# Altium footprint library Connectors-WR-PHD_Pin Header.PcbLib: 232 footprints (part 11 of 15)
Each footprint in its own frame and in the unit in brackets; x right, y up, seen from the top. Pads: shape width x height; smd on the part's side, far side on the other; paste and mask are expansions set on the pad; w line width, h text height; cw(c..) or ccw(c..) is an arc to the next point about the centre after c.
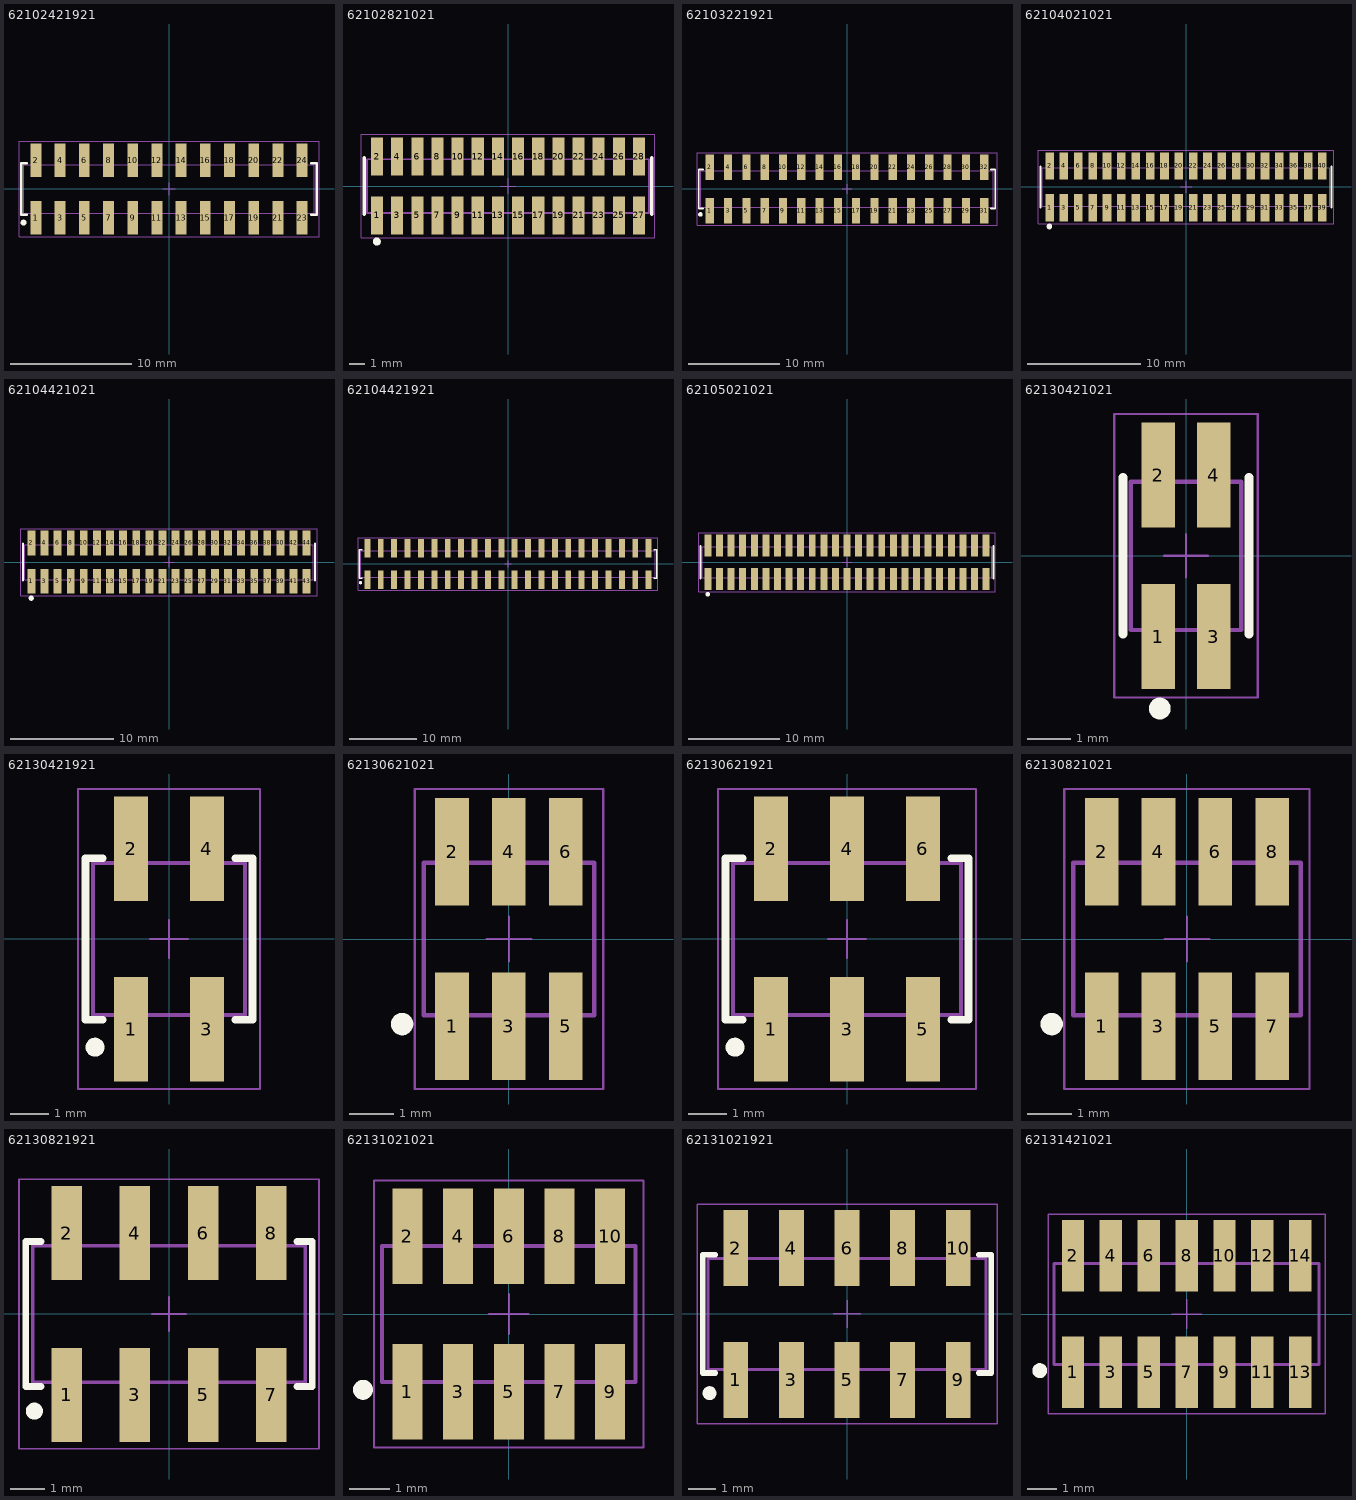
[diagram p10: the footprints below, top view; thin cyan lines are the x and y axes]

## 62102421921 [mm] "Pin Header, pitch 2.00 mm, SMD, Vertical, dual row, 24p"
height 6.8
pads (24):
  rect 0.89x2.75 smd: 1(-11,-2.375) 2(-11,2.375) 3(-9,-2.375) 4(-9,2.375) 5(-7,-2.375) 6(-7,2.375) 7(-5,-2.375) 8(-5,2.375) 9(-3,-2.375) 10(-3,2.375) 11(-1,-2.375) 12(-1,2.375) 13(1,-2.375) 14(1,2.375) 15(3,-2.375) 16(3,2.375) 17(5,-2.375) 18(5,2.375) 19(7,-2.375) 20(7,2.375) 21(9,-2.375) 22(9,2.375) 23(11,-2.375) 24(11,2.375)
Top Overlay:
  circle w0.25: c-12.022,-2.78 r0.125
  lines w0.2: -11.75,-2.125 -12.2,-2.125 -12.2,2.125 -11.75,2.125 ; 11.75,-2.125 12.2,-2.125 12.2,2.125 11.75,2.125
Top Designator:
  text ".Designator" at -7.498,-0.5 h1.5
Top Component Outline:
  lines w0.1: -11.25,-2 -11.25,-3.1 -10.75,-3.1 -10.75,-2 ; -11.25,2 -11.25,3.1 -10.75,3.1 -10.75,2 ; -9.25,-2 -9.25,-3.1 -8.75,-3.1 -8.75,-2 ; -9.25,2 -9.25,3.1 -8.75,3.1 -8.75,2 ; -7.25,-2 -7.25,-3.1 -6.75,-3.1 -6.75,-2 ; -7.25,2 -7.25,3.1 -6.75,3.1 -6.75,2 ; -5.25,-2 -5.25,-3.1 -4.75,-3.1 -4.75,-2 ; -5.25,2 -5.25,3.1 -4.75,3.1 -4.75,2 ; -3.25,-2 -3.25,-3.1 -2.75,-3.1 -2.75,-2 ; -3.25,2 -3.25,3.1 -2.75,3.1 -2.75,2 ; -1.25,-2 -1.25,-3.1 -0.75,-3.1 -0.75,-2 ; -1.25,2 -1.25,3.1 -0.75,3.1 -0.75,2 ; 0.75,-2 0.75,-3.1 1.25,-3.1 1.25,-2 ; 0.75,2 0.75,3.1 1.25,3.1 1.25,2 ; 2.75,-2 2.75,-3.1 3.25,-3.1 3.25,-2 ; 2.75,2 2.75,3.1 3.25,3.1 3.25,2 ; 4.75,-2 4.75,-3.1 5.25,-3.1 5.25,-2 ; 4.75,2 4.75,3.1 5.25,3.1 5.25,2 ; 6.75,-2 6.75,-3.1 7.25,-3.1 7.25,-2 ; 6.75,2 6.75,3.1 7.25,3.1 7.25,2 ; 8.75,-2 8.75,-3.1 9.25,-3.1 9.25,-2 ; 8.75,2 8.75,3.1 9.25,3.1 9.25,2 ; 10.75,-2 10.75,-3.1 11.25,-3.1 11.25,-2 ; 10.75,2 10.75,3.1 11.25,3.1 11.25,2 ; -12,-2 12,-2 12,2 -12,2 -12,-2
Top Courtyard:
  lines w0.05: -12.4,-3.95 -12.4,3.95 12.4,3.95 12.4,-3.95 -12.4,-3.95
Top Component Center:
  lines w0.05: -0.5,0 0.5,0 ; 0,-0.5 0,0.5
3D body "62102421921.stp": height 6.7, standoff 0, extent -12,-3.1 12,3.1

## 62102821021 [mm] "Pin Header, pitch 1.27 mm, SMD, Vertical, dual row, 28p"
height 6.55
pads (28):
  rect 0.76x2.4 smd: 1(-8.255,-1.85) 2(-8.255,1.85) 3(-6.985,-1.85) 4(-6.985,1.85) 5(-5.715,-1.85) 6(-5.715,1.85) 7(-4.445,-1.85) 8(-4.445,1.85) 9(-3.175,-1.85) 10(-3.175,1.85) 11(-1.905,-1.85) 12(-1.905,1.85) 13(-0.635,-1.85) 14(-0.635,1.85) 15(0.635,-1.85) 16(0.635,1.85) 17(1.905,-1.85) 18(1.905,1.85) 19(3.175,-1.85) 20(3.175,1.85) 21(4.445,-1.85) 22(4.445,1.85) 23(5.715,-1.85) 24(5.715,1.85) 25(6.985,-1.85) 26(6.985,1.85) 27(8.255,-1.85) 28(8.255,1.85)
Top Overlay:
  circle w0.25: c-8.27,-3.5 r0.125
  lines w0.2: -9.065,-1.8 -9.065,1.8 ; 9.065,-1.8 9.065,1.8
Top Designator:
  text ".Designator" at -3.499,-0.233 h0.7
Top Component Outline:
  lines w0.1: -8.455,-1.7 -8.455,-2.5 -8.055,-2.5 -8.055,-1.7 ; -8.455,1.7 -8.455,2.5 -8.055,2.5 -8.055,1.7 ; -7.185,-1.7 -7.185,-2.5 -6.785,-2.5 -6.785,-1.7 ; -7.185,1.7 -7.185,2.5 -6.785,2.5 -6.785,1.7 ; -5.915,-1.7 -5.915,-2.5 -5.515,-2.5 -5.515,-1.7 ; -5.915,1.7 -5.915,2.5 -5.515,2.5 -5.515,1.7 ; -4.645,-1.7 -4.645,-2.5 -4.245,-2.5 -4.245,-1.7 ; -4.645,1.7 -4.645,2.5 -4.245,2.5 -4.245,1.7 ; -3.375,-1.7 -3.375,-2.5 -2.975,-2.5 -2.975,-1.7 ; -3.375,1.7 -3.375,2.5 -2.975,2.5 -2.975,1.7 ; -2.105,-1.7 -2.105,-2.5 -1.705,-2.5 -1.705,-1.7 ; -2.105,1.7 -2.105,2.5 -1.705,2.5 -1.705,1.7 ; -0.835,-1.7 -0.835,-2.5 -0.435,-2.5 -0.435,-1.7 ; -0.835,1.7 -0.835,2.5 -0.435,2.5 -0.435,1.7 ; 0.435,-1.7 0.435,-2.5 0.835,-2.5 0.835,-1.7 ; 0.435,1.7 0.435,2.5 0.835,2.5 0.835,1.7 ; 1.705,-1.7 1.705,-2.5 2.105,-2.5 2.105,-1.7 ; 1.705,1.7 1.705,2.5 2.105,2.5 2.105,1.7 ; 2.975,-1.7 2.975,-2.5 3.375,-2.5 3.375,-1.7 ; 2.975,1.7 2.975,2.5 3.375,2.5 3.375,1.7 ; 4.245,-1.7 4.245,-2.5 4.645,-2.5 4.645,-1.7 ; 4.245,1.7 4.245,2.5 4.645,2.5 4.645,1.7 ; 5.515,-1.7 5.515,-2.5 5.915,-2.5 5.915,-1.7 ; 5.515,1.7 5.515,2.5 5.915,2.5 5.915,1.7 ; 6.785,-1.7 6.785,-2.5 7.185,-2.5 7.185,-1.7 ; 6.785,1.7 6.785,2.5 7.185,2.5 7.185,1.7 ; 8.055,-1.7 8.055,-2.5 8.455,-2.5 8.455,-1.7 ; 8.055,1.7 8.055,2.5 8.455,2.5 8.455,1.7 ; -8.89,-1.7 8.89,-1.7 8.89,1.7 -8.89,1.7 -8.89,-1.7
Top Courtyard:
  lines w0.05: -9.265,-3.25 9.265,-3.25 9.265,3.25 -9.265,3.25 -9.265,-3.25
Top Component Center:
  lines w0.05: -0.5,0 0.5,0 ; 0,-0.5 0,0.5
3D body "62102821021.stp": height 5.9, standoff -0.01, extent -8.89,-2.5 8.89,2.5

## 62103221921 [mm] "Pin Header, pitch 2.00 mm, SMD, Vertical, dual row, 32p"
height 6.8
pads (32):
  rect 0.89x2.75 smd: 1(-15,-2.375) 2(-15,2.375) 3(-13,-2.375) 4(-13,2.375) 5(-11,-2.375) 6(-11,2.375) 7(-9,-2.375) 8(-9,2.375) 9(-7,-2.375) 10(-7,2.375) 11(-5,-2.375) 12(-5,2.375) 13(-3,-2.375) 14(-3,2.375) 15(-1,-2.375) 16(-1,2.375) 17(1,-2.375) 18(1,2.375) 19(3,-2.375) 20(3,2.375) 21(5,-2.375) 22(5,2.375) 23(7,-2.375) 24(7,2.375) 25(9,-2.375) 26(9,2.375) 27(11,-2.375) 28(11,2.375) 29(13,-2.375) 30(13,2.375) 31(15,-2.375) 32(15,2.375)
Top Overlay:
  circle w0.25: c-16.022,-2.78 r0.125
  lines w0.2: -15.75,-2.125 -16.2,-2.125 -16.2,2.125 -15.75,2.125 ; 15.75,-2.125 16.2,-2.125 16.2,2.125 15.75,2.125
Top Designator:
  text ".Designator" at -7.498,-0.5 h1.5
Top Component Outline:
  lines w0.1: -15.25,-2 -15.25,-3.1 -14.75,-3.1 -14.75,-2 ; -15.25,2 -15.25,3.1 -14.75,3.1 -14.75,2 ; -13.25,-2 -13.25,-3.1 -12.75,-3.1 -12.75,-2 ; -13.25,2 -13.25,3.1 -12.75,3.1 -12.75,2 ; -11.25,-2 -11.25,-3.1 -10.75,-3.1 -10.75,-2 ; -11.25,2 -11.25,3.1 -10.75,3.1 -10.75,2 ; -9.25,-2 -9.25,-3.1 -8.75,-3.1 -8.75,-2 ; -9.25,2 -9.25,3.1 -8.75,3.1 -8.75,2 ; -7.25,-2 -7.25,-3.1 -6.75,-3.1 -6.75,-2 ; -7.25,2 -7.25,3.1 -6.75,3.1 -6.75,2 ; -5.25,-2 -5.25,-3.1 -4.75,-3.1 -4.75,-2 ; -5.25,2 -5.25,3.1 -4.75,3.1 -4.75,2 ; -3.25,-2 -3.25,-3.1 -2.75,-3.1 -2.75,-2 ; -3.25,2 -3.25,3.1 -2.75,3.1 -2.75,2 ; -1.25,-2 -1.25,-3.1 -0.75,-3.1 -0.75,-2 ; -1.25,2 -1.25,3.1 -0.75,3.1 -0.75,2 ; 0.75,-2 0.75,-3.1 1.25,-3.1 1.25,-2 ; 0.75,2 0.75,3.1 1.25,3.1 1.25,2 ; 2.75,-2 2.75,-3.1 3.25,-3.1 3.25,-2 ; 2.75,2 2.75,3.1 3.25,3.1 3.25,2 ; 4.75,-2 4.75,-3.1 5.25,-3.1 5.25,-2 ; 4.75,2 4.75,3.1 5.25,3.1 5.25,2 ; 6.75,-2 6.75,-3.1 7.25,-3.1 7.25,-2 ; 6.75,2 6.75,3.1 7.25,3.1 7.25,2 ; 8.75,-2 8.75,-3.1 9.25,-3.1 9.25,-2 ; 8.75,2 8.75,3.1 9.25,3.1 9.25,2 ; 10.75,-2 10.75,-3.1 11.25,-3.1 11.25,-2 ; 10.75,2 10.75,3.1 11.25,3.1 11.25,2 ; 12.75,-2 12.75,-3.1 13.25,-3.1 13.25,-2 ; 12.75,2 12.75,3.1 13.25,3.1 13.25,2 ; 14.75,-2 14.75,-3.1 15.25,-3.1 15.25,-2 ; 14.75,2 14.75,3.1 15.25,3.1 15.25,2 ; -16,-2 -16,2 16,2 16,-2 -16,-2
Top Courtyard:
  lines w0.05: -16.4,-3.95 16.4,-3.95 16.4,3.95 -16.4,3.95 -16.4,-3.95
Top Component Center:
  lines w0.05: -0.5,0 0.5,0 ; 0,-0.5 0,0.5
3D body "62103221921.stp": height 6.7, standoff 0, extent -16,-3.1 16,3.1

## 62104021021 [mm] "Pin Header, pitch 1.27 mm, SMD, Vertical, dual row, 40p"
height 6.55
pads (40):
  rect 0.76x2.4 smd: 1(-12.065,-1.85) 2(-12.065,1.85) 3(-10.795,-1.85) 4(-10.795,1.85) 5(-9.525,-1.85) 6(-9.525,1.85) 7(-8.255,-1.85) 8(-8.255,1.85) 9(-6.985,-1.85) 10(-6.985,1.85) 11(-5.715,-1.85) 12(-5.715,1.85) 13(-4.445,-1.85) 14(-4.445,1.85) 15(-3.175,-1.85) 16(-3.175,1.85) 17(-1.905,-1.85) 18(-1.905,1.85) 19(-0.635,-1.85) 20(-0.635,1.85) 21(0.635,-1.85) 22(0.635,1.85) 23(1.905,-1.85) 24(1.905,1.85) 25(3.175,-1.85) 26(3.175,1.85) 27(4.445,-1.85) 28(4.445,1.85) 29(5.715,-1.85) 30(5.715,1.85) 31(6.985,-1.85) 32(6.985,1.85) 33(8.255,-1.85) 34(8.255,1.85) 35(9.525,-1.85) 36(9.525,1.85) 37(10.795,-1.85) 38(10.795,1.85) 39(12.065,-1.85) 40(12.065,1.85)
Top Overlay:
  circle w0.25: c-12.08,-3.5 r0.125
  lines w0.2: -12.875,-1.8 -12.875,1.8 ; 12.875,-1.8 12.875,1.8
Top Designator:
  text ".Designator" at -3.499,-0.233 h0.7
Top Component Outline:
  lines w0.1: -12.265,-1.7 -12.265,-2.5 -11.865,-2.5 -11.865,-1.7 ; -12.265,1.7 -12.265,2.5 -11.865,2.5 -11.865,1.7 ; -10.995,-1.7 -10.995,-2.5 -10.595,-2.5 -10.595,-1.7 ; -10.995,1.7 -10.995,2.5 -10.595,2.5 -10.595,1.7 ; -9.725,-1.7 -9.725,-2.5 -9.325,-2.5 -9.325,-1.7 ; -9.725,1.7 -9.725,2.5 -9.325,2.5 -9.325,1.7 ; -8.455,-1.7 -8.455,-2.5 -8.055,-2.5 -8.055,-1.7 ; -8.455,1.7 -8.455,2.5 -8.055,2.5 -8.055,1.7 ; -7.185,-1.7 -7.185,-2.5 -6.785,-2.5 -6.785,-1.7 ; -7.185,1.7 -7.185,2.5 -6.785,2.5 -6.785,1.7 ; -5.915,-1.7 -5.915,-2.5 -5.515,-2.5 -5.515,-1.7 ; -5.915,1.7 -5.915,2.5 -5.515,2.5 -5.515,1.7 ; -4.645,-1.7 -4.645,-2.5 -4.245,-2.5 -4.245,-1.7 ; -4.645,1.7 -4.645,2.5 -4.245,2.5 -4.245,1.7 ; -3.375,-1.7 -3.375,-2.5 -2.975,-2.5 -2.975,-1.7 ; -3.375,1.7 -3.375,2.5 -2.975,2.5 -2.975,1.7 ; -2.105,-1.7 -2.105,-2.5 -1.705,-2.5 -1.705,-1.7 ; -2.105,1.7 -2.105,2.5 -1.705,2.5 -1.705,1.7 ; -0.835,-1.7 -0.835,-2.5 -0.435,-2.5 -0.435,-1.7 ; -0.835,1.7 -0.835,2.5 -0.435,2.5 -0.435,1.7 ; 0.435,-1.7 0.435,-2.5 0.835,-2.5 0.835,-1.7 ; 0.435,1.7 0.435,2.5 0.835,2.5 0.835,1.7 ; 1.705,-1.7 1.705,-2.5 2.105,-2.5 2.105,-1.7 ; 1.705,1.7 1.705,2.5 2.105,2.5 2.105,1.7 ; 2.975,-1.7 2.975,-2.5 3.375,-2.5 3.375,-1.7 ; 2.975,1.7 2.975,2.5 3.375,2.5 3.375,1.7 ; 4.245,-1.7 4.245,-2.5 4.645,-2.5 4.645,-1.7 ; 4.245,1.7 4.245,2.5 4.645,2.5 4.645,1.7 ; 5.515,-1.7 5.515,-2.5 5.915,-2.5 5.915,-1.7 ; 5.515,1.7 5.515,2.5 5.915,2.5 5.915,1.7 ; 6.785,-1.7 6.785,-2.5 7.185,-2.5 7.185,-1.7 ; 6.785,1.7 6.785,2.5 7.185,2.5 7.185,1.7 ; 8.055,-1.7 8.055,-2.5 8.455,-2.5 8.455,-1.7 ; 8.055,1.7 8.055,2.5 8.455,2.5 8.455,1.7 ; 9.325,-1.7 9.325,-2.5 9.725,-2.5 9.725,-1.7 ; 9.325,1.7 9.325,2.5 9.725,2.5 9.725,1.7 ; 10.595,-1.7 10.595,-2.5 10.995,-2.5 10.995,-1.7 ; 10.595,1.7 10.595,2.5 10.995,2.5 10.995,1.7 ; 11.865,-1.7 11.865,-2.5 12.265,-2.5 12.265,-1.7 ; 11.865,1.7 11.865,2.5 12.265,2.5 12.265,1.7 ; -12.7,-1.7 -12.7,1.7 12.7,1.7 12.7,-1.7 -12.7,-1.7
Top Courtyard:
  lines w0.05: -13.075,-3.25 -13.075,3.25 13.075,3.25 13.075,-3.25 -13.075,-3.25
Top Component Center:
  lines w0.05: -0.5,0 0.5,0 ; 0,-0.5 0,0.5
3D body "62104021021.stp": height 5.9, standoff -0.01, extent -12.7,-2.5 12.7,2.5

## 62104421021 [mm] "Pin Header, pitch 1.27 mm, SMD, Vertical, dual row, 44p"
height 6.55
pads (44):
  rect 0.76x2.4 smd: 1(-13.335,-1.85) 2(-13.335,1.85) 3(-12.065,-1.85) 4(-12.065,1.85) 5(-10.795,-1.85) 6(-10.795,1.85) 7(-9.525,-1.85) 8(-9.525,1.85) 9(-8.255,-1.85) 10(-8.255,1.85) 11(-6.985,-1.85) 12(-6.985,1.85) 13(-5.715,-1.85) 14(-5.715,1.85) 15(-4.445,-1.85) 16(-4.445,1.85) 17(-3.175,-1.85) 18(-3.175,1.85) 19(-1.905,-1.85) 20(-1.905,1.85) 21(-0.635,-1.85) 22(-0.635,1.85) 23(0.635,-1.85) 24(0.635,1.85) 25(1.905,-1.85) 26(1.905,1.85) 27(3.175,-1.85) 28(3.175,1.85) 29(4.445,-1.85) 30(4.445,1.85) 31(5.715,-1.85) 32(5.715,1.85) 33(6.985,-1.85) 34(6.985,1.85) 35(8.255,-1.85) 36(8.255,1.85) 37(9.525,-1.85) 38(9.525,1.85) 39(10.795,-1.85) 40(10.795,1.85) 41(12.065,-1.85) 42(12.065,1.85) 43(13.335,-1.85) 44(13.335,1.85)
Top Overlay:
  circle w0.25: c-13.35,-3.5 r0.125
  lines w0.2: -14.145,-1.8 -14.145,1.8 ; 14.145,-1.8 14.145,1.8
Top Designator:
  text ".Designator" at -3.499,-0.233 h0.7
Top Component Outline:
  lines w0.1: -13.535,-1.7 -13.535,-2.5 -13.135,-2.5 -13.135,-1.7 ; -13.535,1.7 -13.535,2.5 -13.135,2.5 -13.135,1.7 ; -12.265,-1.7 -12.265,-2.5 -11.865,-2.5 -11.865,-1.7 ; -12.265,1.7 -12.265,2.5 -11.865,2.5 -11.865,1.7 ; -10.995,-1.7 -10.995,-2.5 -10.595,-2.5 -10.595,-1.7 ; -10.995,1.7 -10.995,2.5 -10.595,2.5 -10.595,1.7 ; -9.725,-1.7 -9.725,-2.5 -9.325,-2.5 -9.325,-1.7 ; -9.725,1.7 -9.725,2.5 -9.325,2.5 -9.325,1.7 ; -8.455,-1.7 -8.455,-2.5 -8.055,-2.5 -8.055,-1.7 ; -8.455,1.7 -8.455,2.5 -8.055,2.5 -8.055,1.7 ; -7.185,-1.7 -7.185,-2.5 -6.785,-2.5 -6.785,-1.7 ; -7.185,1.7 -7.185,2.5 -6.785,2.5 -6.785,1.7 ; -5.915,-1.7 -5.915,-2.5 -5.515,-2.5 -5.515,-1.7 ; -5.915,1.7 -5.915,2.5 -5.515,2.5 -5.515,1.7 ; -4.645,-1.7 -4.645,-2.5 -4.245,-2.5 -4.245,-1.7 ; -4.645,1.7 -4.645,2.5 -4.245,2.5 -4.245,1.7 ; -3.375,-1.7 -3.375,-2.5 -2.975,-2.5 -2.975,-1.7 ; -3.375,1.7 -3.375,2.5 -2.975,2.5 -2.975,1.7 ; -2.105,-1.7 -2.105,-2.5 -1.705,-2.5 -1.705,-1.7 ; -2.105,1.7 -2.105,2.5 -1.705,2.5 -1.705,1.7 ; -0.835,-1.7 -0.835,-2.5 -0.435,-2.5 -0.435,-1.7 ; -0.835,1.7 -0.835,2.5 -0.435,2.5 -0.435,1.7 ; 0.435,-1.7 0.435,-2.5 0.835,-2.5 0.835,-1.7 ; 0.435,1.7 0.435,2.5 0.835,2.5 0.835,1.7 ; 1.705,-1.7 1.705,-2.5 2.105,-2.5 2.105,-1.7 ; 1.705,1.7 1.705,2.5 2.105,2.5 2.105,1.7 ; 2.975,-1.7 2.975,-2.5 3.375,-2.5 3.375,-1.7 ; 2.975,1.7 2.975,2.5 3.375,2.5 3.375,1.7 ; 4.245,-1.7 4.245,-2.5 4.645,-2.5 4.645,-1.7 ; 4.245,1.7 4.245,2.5 4.645,2.5 4.645,1.7 ; 5.515,-1.7 5.515,-2.5 5.915,-2.5 5.915,-1.7 ; 5.515,1.7 5.515,2.5 5.915,2.5 5.915,1.7 ; 6.785,-1.7 6.785,-2.5 7.185,-2.5 7.185,-1.7 ; 6.785,1.7 6.785,2.5 7.185,2.5 7.185,1.7 ; 8.055,-1.7 8.055,-2.5 8.455,-2.5 8.455,-1.7 ; 8.055,1.7 8.055,2.5 8.455,2.5 8.455,1.7 ; 9.325,-1.7 9.325,-2.5 9.725,-2.5 9.725,-1.7 ; 9.325,1.7 9.325,2.5 9.725,2.5 9.725,1.7 ; 10.595,-1.7 10.595,-2.5 10.995,-2.5 10.995,-1.7 ; 10.595,1.7 10.595,2.5 10.995,2.5 10.995,1.7 ; 11.865,-1.7 11.865,-2.5 12.265,-2.5 12.265,-1.7 ; 11.865,1.7 11.865,2.5 12.265,2.5 12.265,1.7 ; 13.135,-1.7 13.135,-2.5 13.535,-2.5 13.535,-1.7 ; 13.135,1.7 13.135,2.5 13.535,2.5 13.535,1.7 ; -13.97,-1.7 -13.97,1.7 13.97,1.7 13.97,-1.7 -13.97,-1.7
Top Courtyard:
  lines w0.05: -14.345,-3.25 -14.345,3.25 14.345,3.25 14.345,-3.25 -14.345,-3.25
Top Component Center:
  lines w0.05: -0.5,0 0.5,0 ; 0,-0.5 0,0.5
3D body "62104421021.stp": height 5.9, standoff -0.01, extent -13.97,-2.5 13.97,2.5

## 62104421921 [mm] "Pin Header, pitch 2.00 mm, SMD, Vertical, dual row, 44p"
height 6.8
pads (44):
  rect 0.89x2.75 smd: 1(-21,-2.375) 2(-21,2.375) 3(-19,-2.375) 4(-19,2.375) 5(-17,-2.375) 6(-17,2.375) 7(-15,-2.375) 8(-15,2.375) 9(-13,-2.375) 10(-13,2.375) 11(-11,-2.375) 12(-11,2.375) 13(-9,-2.375) 14(-9,2.375) 15(-7,-2.375) 16(-7,2.375) 17(-5,-2.375) 18(-5,2.375) 19(-3,-2.375) 20(-3,2.375) 21(-1,-2.375) 22(-1,2.375) 23(1,-2.375) 24(1,2.375) 25(3,-2.375) 26(3,2.375) 27(5,-2.375) 28(5,2.375) 29(7,-2.375) 30(7,2.375) 31(9,-2.375) 32(9,2.375) 33(11,-2.375) 34(11,2.375) 35(13,-2.375) 36(13,2.375) 37(15,-2.375) 38(15,2.375) 39(17,-2.375) 40(17,2.375) 41(19,-2.375) 42(19,2.375) 43(21,-2.375) 44(21,2.375)
Top Overlay:
  circle w0.25: c-22.022,-2.78 r0.125
  lines w0.2: -21.75,-2.125 -22.2,-2.125 -22.2,2.125 -21.75,2.125 ; 21.75,-2.125 22.2,-2.125 22.2,2.125 21.75,2.125
Top Designator:
  text ".Designator" at -7.498,-0.5 h1.5
Top Component Outline:
  lines w0.1: -21.25,-2 -21.25,-3.1 -20.75,-3.1 -20.75,-2 ; -21.25,2 -21.25,3.1 -20.75,3.1 -20.75,2 ; -19.25,-2 -19.25,-3.1 -18.75,-3.1 -18.75,-2 ; -19.25,2 -19.25,3.1 -18.75,3.1 -18.75,2 ; -17.25,-2 -17.25,-3.1 -16.75,-3.1 -16.75,-2 ; -17.25,2 -17.25,3.1 -16.75,3.1 -16.75,2 ; -15.25,-2 -15.25,-3.1 -14.75,-3.1 -14.75,-2 ; -15.25,2 -15.25,3.1 -14.75,3.1 -14.75,2 ; -13.25,-2 -13.25,-3.1 -12.75,-3.1 -12.75,-2 ; -13.25,2 -13.25,3.1 -12.75,3.1 -12.75,2 ; -11.25,-2 -11.25,-3.1 -10.75,-3.1 -10.75,-2 ; -11.25,2 -11.25,3.1 -10.75,3.1 -10.75,2 ; -9.25,-2 -9.25,-3.1 -8.75,-3.1 -8.75,-2 ; -9.25,2 -9.25,3.1 -8.75,3.1 -8.75,2 ; -7.25,-2 -7.25,-3.1 -6.75,-3.1 -6.75,-2 ; -7.25,2 -7.25,3.1 -6.75,3.1 -6.75,2 ; -5.25,-2 -5.25,-3.1 -4.75,-3.1 -4.75,-2 ; -5.25,2 -5.25,3.1 -4.75,3.1 -4.75,2 ; -3.25,-2 -3.25,-3.1 -2.75,-3.1 -2.75,-2 ; -3.25,2 -3.25,3.1 -2.75,3.1 -2.75,2 ; -1.25,-2 -1.25,-3.1 -0.75,-3.1 -0.75,-2 ; -1.25,2 -1.25,3.1 -0.75,3.1 -0.75,2 ; 0.75,-2 0.75,-3.1 1.25,-3.1 1.25,-2 ; 0.75,2 0.75,3.1 1.25,3.1 1.25,2 ; 2.75,-2 2.75,-3.1 3.25,-3.1 3.25,-2 ; 2.75,2 2.75,3.1 3.25,3.1 3.25,2 ; 4.75,-2 4.75,-3.1 5.25,-3.1 5.25,-2 ; 4.75,2 4.75,3.1 5.25,3.1 5.25,2 ; 6.75,-2 6.75,-3.1 7.25,-3.1 7.25,-2 ; 6.75,2 6.75,3.1 7.25,3.1 7.25,2 ; 8.75,-2 8.75,-3.1 9.25,-3.1 9.25,-2 ; 8.75,2 8.75,3.1 9.25,3.1 9.25,2 ; 10.75,-2 10.75,-3.1 11.25,-3.1 11.25,-2 ; 10.75,2 10.75,3.1 11.25,3.1 11.25,2 ; 12.75,-2 12.75,-3.1 13.25,-3.1 13.25,-2 ; 12.75,2 12.75,3.1 13.25,3.1 13.25,2 ; 14.75,-2 14.75,-3.1 15.25,-3.1 15.25,-2 ; 14.75,2 14.75,3.1 15.25,3.1 15.25,2 ; 16.75,-2 16.75,-3.1 17.25,-3.1 17.25,-2 ; 16.75,2 16.75,3.1 17.25,3.1 17.25,2 ; 18.75,-2 18.75,-3.1 19.25,-3.1 19.25,-2 ; 18.75,2 18.75,3.1 19.25,3.1 19.25,2 ; 20.75,-2 20.75,-3.1 21.25,-3.1 21.25,-2 ; 20.75,2 20.75,3.1 21.25,3.1 21.25,2 ; -22,-2 22,-2 22,2 -22,2 -22,-2
Top Courtyard:
  lines w0.05: -22.4,-3.95 -22.4,3.95 22.4,3.95 22.4,-3.95 -22.4,-3.95
Top Component Center:
  lines w0.05: -0.5,0 0.5,0 ; 0,-0.5 0,0.5
3D body "62104421921.stp": height 6.7, standoff 0, extent -22,-3.1 22,3.1

## 62105021021 [mm] "Pin Header, pitch 1.27 mm, SMD, Vertical, dual row, 50p"
height 6.55
pads (50):
  rect 0.76x2.4 smd: 1(-15.24,-1.85) 2(-15.24,1.85) 3(-13.97,-1.85) 4(-13.97,1.85) 5(-12.7,-1.85) 6(-12.7,1.85) 7(-11.43,-1.85) 8(-11.43,1.85) 9(-10.16,-1.85) 10(-10.16,1.85) 11(-8.89,-1.85) 12(-8.89,1.85) 13(-7.62,-1.85) 14(-7.62,1.85) 15(-6.35,-1.85) 16(-6.35,1.85) 17(-5.08,-1.85) 18(-5.08,1.85) 19(-3.81,-1.85) 20(-3.81,1.85) 21(-2.54,-1.85) 22(-2.54,1.85) 23(-1.27,-1.85) 24(-1.27,1.85) 25(0,-1.85) 26(0,1.85) 27(1.27,-1.85) 28(1.27,1.85) 29(2.54,-1.85) 30(2.54,1.85) 31(3.81,-1.85) 32(3.81,1.85) 33(5.08,-1.85) 34(5.08,1.85) 35(6.35,-1.85) 36(6.35,1.85) 37(7.62,-1.85) 38(7.62,1.85) 39(8.89,-1.85) 40(8.89,1.85) 41(10.16,-1.85) 42(10.16,1.85) 43(11.43,-1.85) 44(11.43,1.85) 45(12.7,-1.85) 46(12.7,1.85) 47(13.97,-1.85) 48(13.97,1.85) 49(15.24,-1.85) 50(15.24,1.85)
Top Overlay:
  circle w0.25: c-15.255,-3.5 r0.125
  lines w0.2: -16.05,-1.8 -16.05,1.8 ; 16.05,-1.8 16.05,1.8
Top Designator:
  text ".Designator" at -3.499,-0.233 h0.7
Top Component Outline:
  drawing of 154 lines, arcs and shapes, not listed
Top Courtyard:
  lines w0.05: -16.25,-3.25 -16.25,3.25 16.25,3.25 16.25,-3.25 -16.25,-3.25
Top Component Center:
  lines w0.05: -0.5,0 0.5,0 ; 0,-0.5 0,0.5
3D body "62105021021.stp": height 5.9, standoff -0.01, extent -15.875,-2.5 15.875,2.5

## 62130421021 [mm] "Pin Header, pitch 1.27 mm, SMD, Vertical, dual row, 4p"
height 6.1
pads (4):
  rect 0.76x2.4 smd: 1(-0.635,-1.85) 2(-0.635,1.85) 3(0.635,-1.85) 4(0.635,1.85)
Top Overlay:
  circle w0.25: c-0.6,-3.5 r0.125
  lines w0.2: -1.445,-1.8 -1.445,1.8 ; 1.445,-1.8 1.445,1.8
Top Designator:
  text ".Designator" at -3.499,-0.233 h0.7
Top Component Outline:
  lines w0.1: -0.835,-1.7 -0.835,-2.5 -0.435,-2.5 -0.435,-1.7 ; -0.835,1.7 -0.835,2.5 -0.435,2.5 -0.435,1.7 ; 0.435,-1.7 0.435,-2.5 0.835,-2.5 0.835,-1.7 ; 0.435,1.7 0.435,2.5 0.835,2.5 0.835,1.7 ; -1.27,-1.7 1.27,-1.7 1.27,1.7 -1.27,1.7 -1.27,-1.7
Top Courtyard:
  lines w0.05: -1.645,-3.25 1.645,-3.25 1.645,3.25 -1.645,3.25 -1.645,-3.25
Top Component Center:
  lines w0.05: -0.5,0 0.5,0 ; 0,-0.5 0,0.5
3D body "62130421021.stp": height 5.9, standoff 0, extent -1.27,-2.55 1.27,2.55

## 62130421921 [mm] "Pin Header, pitch 2.00 mm, SMD, Vertical, dual row, 4p"
height 6.8
pads (4):
  rect 0.89x2.75 smd: 1(-1,-2.375) 2(-1,2.375) 3(1,-2.375) 4(1,2.375)
Top Overlay:
  circle w0.25: c-1.95,-2.85 r0.125
  lines w0.2: -1.75,-2.125 -2.2,-2.125 -2.2,2.125 -1.75,2.125 ; 1.75,-2.125 2.2,-2.125 2.2,2.125 1.75,2.125
Top Designator:
  text ".Designator" at -7.498,-0.5 h1.5
Top Component Outline:
  lines w0.1: -1.25,-2 -1.25,-3.1 -0.75,-3.1 -0.75,-2 ; -1.25,2 -1.25,3.1 -0.75,3.1 -0.75,2 ; 0.75,-2 0.75,-3.1 1.25,-3.1 1.25,-2 ; 0.75,2 0.75,3.1 1.25,3.1 1.25,2 ; -2,-2 -2,2 2,2 2,-2 -2,-2
Top Courtyard:
  lines w0.05: -2.4,-3.95 2.4,-3.95 2.4,3.95 -2.4,3.95 -2.4,-3.95
Top Component Center:
  lines w0.05: -0.5,0 0.5,0 ; 0,-0.5 0,0.5
3D body "62130421921.stp": height 6.7, standoff 0, extent -2,-3.1 2,3.1

## 62130621021 [mm] "Pin Header, pitch 1.27 mm, SMD, Vertical, dual row, 6p"
height 6.1
pads (6):
  rect 0.75x2.4 smd: 1(-1.27,-1.95) 2(-1.27,1.95) 3(0,-1.95) 4(0,1.95) 5(1.27,-1.95) 6(1.27,1.95)
Top Overlay:
  circle w0.25: c-2.385,-1.9 r0.125
Top Designator:
  text ".Designator" at -4.998,-0.333 h1
Top Component Outline:
  lines w0.1: -1.47,-1.7 -1.47,-2.5 -1.07,-2.5 -1.07,-1.7 ; -1.47,1.7 -1.47,2.5 -1.07,2.5 -1.07,1.7 ; -0.2,-1.7 -0.2,-2.5 0.2,-2.5 0.2,-1.7 ; -0.2,1.7 -0.2,2.5 0.2,2.5 0.2,1.7 ; 1.07,-1.7 1.07,-2.5 1.47,-2.5 1.47,-1.7 ; 1.07,1.7 1.07,2.5 1.47,2.5 1.47,1.7 ; -1.905,-1.7 1.905,-1.7 1.905,1.7 -1.905,1.7 -1.905,-1.7
Top Courtyard:
  lines w0.05: -2.105,-3.35 2.105,-3.35 2.105,3.35 -2.105,3.35 -2.105,-3.35
Top Component Center:
  lines w0.05: -0.5,0 0.5,0 ; 0,-0.5 0,0.5
3D body "62130621021.stp": height 5.9, standoff 0, extent -1.905,-2.55 1.905,2.55

## 62130621921 [mm] "Pin Header, pitch 2.00 mm, SMD, Vertical, dual row, 6p"
height 6.8
pads (6):
  rect 0.89x2.75 smd: 1(-2,-2.375) 2(-2,2.375) 3(0,-2.375) 4(0,2.375) 5(2,-2.375) 6(2,2.375)
Top Overlay:
  circle w0.25: c-2.95,-2.85 r0.125
  lines w0.2: -2.75,-2.125 -3.2,-2.125 -3.2,2.125 -2.75,2.125 ; 2.75,-2.125 3.2,-2.125 3.2,2.125 2.75,2.125
Top Designator:
  text ".Designator" at -7.498,-0.5 h1.5
Top Component Outline:
  lines w0.1: -2.25,-2 -2.25,-3.1 -1.75,-3.1 -1.75,-2 ; -2.25,2 -2.25,3.1 -1.75,3.1 -1.75,2 ; -0.25,-2 -0.25,-3.1 0.25,-3.1 0.25,-2 ; -0.25,2 -0.25,3.1 0.25,3.1 0.25,2 ; 1.75,-2 1.75,-3.1 2.25,-3.1 2.25,-2 ; 1.75,2 1.75,3.1 2.25,3.1 2.25,2 ; -3,-2 3,-2 3,2 -3,2 -3,-2
Top Courtyard:
  lines w0.05: -3.4,-3.95 -3.4,3.95 3.4,3.95 3.4,-3.95 -3.4,-3.95
Top Component Center:
  lines w0.05: -0.5,0 0.5,0 ; 0,-0.5 0,0.5
3D body "62130621921.stp": height 6.7, standoff 0, extent -3,-3.1 3,3.1

## 62130821021 [mm] "Pin Header, pitch 1.27 mm, SMD, Vertical, dual row, 8p"
height 6.1
pads (8):
  rect 0.75x2.4 smd: 1(-1.905,-1.95) 2(-1.905,1.95) 3(-0.635,-1.95) 4(-0.635,1.95) 5(0.635,-1.95) 6(0.635,1.95) 7(1.905,-1.95) 8(1.905,1.95)
Top Overlay:
  circle w0.25: c-3.02,-1.9 r0.125
Top Designator:
  text ".Designator" at -7.498,-0.5 h1.5
Top Component Outline:
  lines w0.1: -2.105,-1.7 -2.105,-2.5 -1.705,-2.5 -1.705,-1.7 ; -2.105,1.7 -2.105,2.5 -1.705,2.5 -1.705,1.7 ; -0.835,-1.7 -0.835,-2.5 -0.435,-2.5 -0.435,-1.7 ; -0.835,1.7 -0.835,2.5 -0.435,2.5 -0.435,1.7 ; 0.435,-1.7 0.435,-2.5 0.835,-2.5 0.835,-1.7 ; 0.435,1.7 0.435,2.5 0.835,2.5 0.835,1.7 ; 1.705,-1.7 1.705,-2.5 2.105,-2.5 2.105,-1.7 ; 1.705,1.7 1.705,2.5 2.105,2.5 2.105,1.7 ; -2.54,-1.7 -2.54,1.7 2.54,1.7 2.54,-1.7 -2.54,-1.7
Top Courtyard:
  lines w0.05: -2.74,-3.35 -2.74,3.35 2.74,3.35 2.74,-3.35 -2.74,-3.35
Top Component Center:
  lines w0.05: -0.5,0 0.5,0 ; 0,-0.5 0,0.5
3D body "62130821021.stp": height 5.9, standoff 0, extent -2.54,-2.55 2.54,2.55

## 62130821921 [mm] "Pin Header, pitch 2.00 mm, SMD, Vertical, dual row, 8p"
height 6.8
pads (8):
  rect 0.89x2.75 smd: 1(-3,-2.375) 2(-3,2.375) 3(-1,-2.375) 4(-1,2.375) 5(1,-2.375) 6(1,2.375) 7(3,-2.375) 8(3,2.375)
Top Overlay:
  circle w0.25: c-3.95,-2.85 r0.125
  lines w0.2: -3.75,-2.125 -4.2,-2.125 -4.2,2.125 -3.75,2.125 ; 3.75,-2.125 4.2,-2.125 4.2,2.125 3.75,2.125
Top Designator:
  text ".Designator" at -7.498,-0.5 h1.5
Top Component Outline:
  lines w0.1: -3.25,-2 -3.25,-3.1 -2.75,-3.1 -2.75,-2 ; -3.25,2 -3.25,3.1 -2.75,3.1 -2.75,2 ; -1.25,-2 -1.25,-3.1 -0.75,-3.1 -0.75,-2 ; -1.25,2 -1.25,3.1 -0.75,3.1 -0.75,2 ; 0.75,-2 0.75,-3.1 1.25,-3.1 1.25,-2 ; 0.75,2 0.75,3.1 1.25,3.1 1.25,2 ; 2.75,-2 2.75,-3.1 3.25,-3.1 3.25,-2 ; 2.75,2 2.75,3.1 3.25,3.1 3.25,2 ; -4,-2 -4,2 4,2 4,-2 -4,-2
Top Courtyard:
  lines w0.05: -4.4,-3.95 4.4,-3.95 4.4,3.95 -4.4,3.95 -4.4,-3.95
Top Component Center:
  lines w0.05: -0.5,0 0.5,0 ; 0,-0.5 0,0.5
3D body "62130821921.stp": height 6.7, standoff 0, extent -4,-3.1 4,3.1

## 62131021021 [mm] "Pin Header, pitch 1.27 mm, SMD, Vertical, dual row, 10p"
height 6.1
pads (10):
  rect 0.75x2.4 smd: 1(-2.54,-1.95) 2(-2.54,1.95) 3(-1.27,-1.95) 4(-1.27,1.95) 5(0,-1.95) 6(0,1.95) 7(1.27,-1.95) 8(1.27,1.95) 9(2.54,-1.95) 10(2.54,1.95)
Top Overlay:
  circle w0.25: c-3.655,-1.9 r0.125
Top Designator:
  text ".Designator" at -7.498,-0.5 h1.5
Top Component Outline:
  lines w0.1: -2.74,-1.7 -2.74,-2.5 -2.34,-2.5 -2.34,-1.7 ; -2.74,1.7 -2.74,2.5 -2.34,2.5 -2.34,1.7 ; -1.47,-1.7 -1.47,-2.5 -1.07,-2.5 -1.07,-1.7 ; -1.47,1.7 -1.47,2.5 -1.07,2.5 -1.07,1.7 ; -0.2,-1.7 -0.2,-2.5 0.2,-2.5 0.2,-1.7 ; -0.2,1.7 -0.2,2.5 0.2,2.5 0.2,1.7 ; 1.07,-1.7 1.07,-2.5 1.47,-2.5 1.47,-1.7 ; 1.07,1.7 1.07,2.5 1.47,2.5 1.47,1.7 ; 2.34,-1.7 2.34,-2.5 2.74,-2.5 2.74,-1.7 ; 2.34,1.7 2.34,2.5 2.74,2.5 2.74,1.7 ; -3.175,-1.7 -3.175,1.7 3.175,1.7 3.175,-1.7 -3.175,-1.7
Top Courtyard:
  lines w0.05: -3.375,-3.35 -3.375,3.35 3.375,3.35 3.375,-3.35 -3.375,-3.35
Top Component Center:
  lines w0.05: -0.5,0 0.5,0 ; 0,-0.5 0,0.5
3D body "62131021021.stp": height 5.9, standoff 0, extent -3.175,-2.55 3.175,2.55

## 62131021921 [mm] "Pin Header, pitch 2.00 mm, SMD, Vertical, dual row, 10p"
height 6.8
pads (10):
  rect 0.89x2.75 smd: 1(-4,-2.375) 2(-4,2.375) 3(-2,-2.375) 4(-2,2.375) 5(0,-2.375) 6(0,2.375) 7(2,-2.375) 8(2,2.375) 9(4,-2.375) 10(4,2.375)
Top Overlay:
  circle w0.25: c-4.95,-2.85 r0.125
  lines w0.2: -4.75,-2.125 -5.2,-2.125 -5.2,2.125 -4.75,2.125 ; 4.75,-2.125 5.2,-2.125 5.2,2.125 4.75,2.125
Top Designator:
  text ".Designator" at -7.498,-0.5 h1.5
Top Component Outline:
  lines w0.1: -4.25,-2 -4.25,-3.1 -3.75,-3.1 -3.75,-2 ; -4.25,2 -4.25,3.1 -3.75,3.1 -3.75,2 ; -2.25,-2 -2.25,-3.1 -1.75,-3.1 -1.75,-2 ; -2.25,2 -2.25,3.1 -1.75,3.1 -1.75,2 ; -0.25,-2 -0.25,-3.1 0.25,-3.1 0.25,-2 ; -0.25,2 -0.25,3.1 0.25,3.1 0.25,2 ; 1.75,-2 1.75,-3.1 2.25,-3.1 2.25,-2 ; 1.75,2 1.75,3.1 2.25,3.1 2.25,2 ; 3.75,-2 3.75,-3.1 4.25,-3.1 4.25,-2 ; 3.75,2 3.75,3.1 4.25,3.1 4.25,2 ; -5,-2 -5,2 5,2 5,-2 -5,-2
Top Courtyard:
  lines w0.05: -5.4,-3.95 5.4,-3.95 5.4,3.95 -5.4,3.95 -5.4,-3.95
Top Component Center:
  lines w0.05: -0.5,0 0.5,0 ; 0,-0.5 0,0.5
3D body "62131021921.stp": height 6.7, standoff 0, extent -5,-3.1 5,3.1

## 62131421021 [mm] "Pin Header, pitch 1.27 mm, SMD, Vertical, dual row, 14p"
height 6.1
pads (14):
  rect 0.75x2.4 smd: 1(-3.81,-1.95) 2(-3.81,1.95) 3(-2.54,-1.95) 4(-2.54,1.95) 5(-1.27,-1.95) 6(-1.27,1.95) 7(0,-1.95) 8(0,1.95) 9(1.27,-1.95) 10(1.27,1.95) 11(2.54,-1.95) 12(2.54,1.95) 13(3.81,-1.95) 14(3.81,1.95)
Top Overlay:
  circle w0.25: c-4.925,-1.9 r0.125
Top Designator:
  text ".Designator" at -7.498,-0.5 h1.5
Top Component Outline:
  lines w0.1: -4.01,-1.7 -4.01,-2.5 -3.61,-2.5 -3.61,-1.7 ; -4.01,1.7 -4.01,2.5 -3.61,2.5 -3.61,1.7 ; -2.74,-1.7 -2.74,-2.5 -2.34,-2.5 -2.34,-1.7 ; -2.74,1.7 -2.74,2.5 -2.34,2.5 -2.34,1.7 ; -1.47,-1.7 -1.47,-2.5 -1.07,-2.5 -1.07,-1.7 ; -1.47,1.7 -1.47,2.5 -1.07,2.5 -1.07,1.7 ; -0.2,-1.7 -0.2,-2.5 0.2,-2.5 0.2,-1.7 ; -0.2,1.7 -0.2,2.5 0.2,2.5 0.2,1.7 ; 1.07,-1.7 1.07,-2.5 1.47,-2.5 1.47,-1.7 ; 1.07,1.7 1.07,2.5 1.47,2.5 1.47,1.7 ; 2.34,-1.7 2.34,-2.5 2.74,-2.5 2.74,-1.7 ; 2.34,1.7 2.34,2.5 2.74,2.5 2.74,1.7 ; 3.61,-1.7 3.61,-2.5 4.01,-2.5 4.01,-1.7 ; 3.61,1.7 3.61,2.5 4.01,2.5 4.01,1.7 ; -4.445,-1.7 -4.445,1.7 4.445,1.7 4.445,-1.7 -4.445,-1.7
Top Courtyard:
  lines w0.05: -4.645,-3.35 -4.645,3.35 4.645,3.35 4.645,-3.35 -4.645,-3.35
Top Component Center:
  lines w0.05: -0.5,0 0.5,0 ; 0,-0.5 0,0.5
3D body "62131421021.stp": height 5.9, standoff 0, extent -4.445,-2.55 4.445,2.55